# Altium schematic symbol library TUSB1106PWR.SchLib: 1 symbol
Pins are listed as number, name and electrical type; pins without a type are passive.

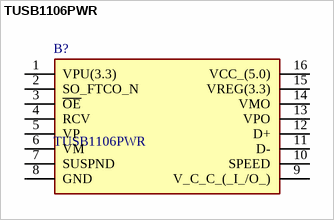
[diagram p0: symbol TUSB1106PWR]

## TUSB1106PWR
designator B?
Texas Instruments TUSB1106PWR, USB Transceiver, USB 2.0 at 12Mbit/s, 3.3 V, 5 V, 16-Pin TSSOP; Geometry.Height: 1.2mm; Mouser Part Number: 595-TUSB1106PWR; Mouser Price/Stock: https://www.mouser.co.uk/ProductDetail/Texas-Instruments/TUSB1106PWR?qs=7kv20MEVUlg2%2FxFfZrfm%2FA%3D%3D; Manufacturer_Name: Texas Instruments; Manufacturer_Part_Number: TUSB1106PWR; Datasheet Link: http://www.ti.com/lit/gpn/tusb1106
footprint SOP65P640X120-16N
pins: 1 VPU(3.3), 2 SO_FTCO_N, 3 ~{OE}, 4 RCV, 5 VP, 6 VM, 7 SUSPND, 8 GND, 9 V_C_C_(_I_/O_), 10 SPEED, 11 D-, 12 D+, 13 VPO, 14 VMO, 15 VREG(3.3), 16 VCC_(5.0)